# Altium schematic symbol library Microchip.SchLib: 39 symbols (part 2 of 2)
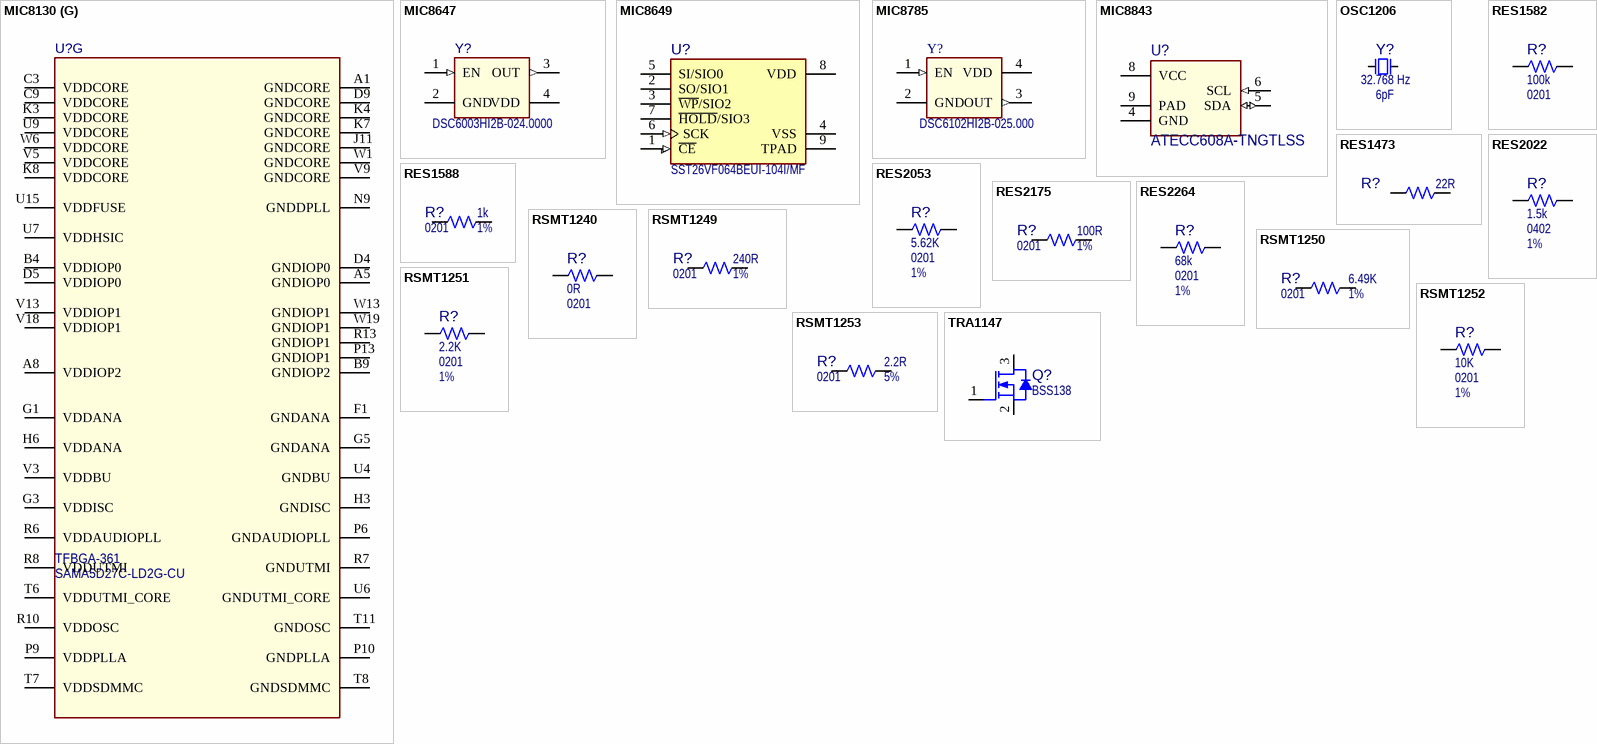
[diagram p2: symbols MIC8130 to TRA1147]

## RES2264
designator R?, comment value 68k  Package: 0201  Tolerance: 1%  (hidden comment: Resistor)
Manufacturer 1: Yageo; Manufacturer Part Number 1: RC0201FR-0768KL; MCHP-ID: RES2264; Description_: RES TKF 68K 1/20W SMD 0201; Dev Tools Status: Design; Voltage: 25V; Temperature Coeffcient: 200ppm/C; Power: 1/20W; Owner: Dragos Danaila; Populated: YES; Revision: A; Symbol: Resistor; Status: MCL Design; ComponentLink1URL: https://chn-vm-apps.microchip.com/mchprepo/parts/Datasheets/PYu-RC_Group_51_RoHS_L_10.pdf; ComponentLink1Description: SVN Datasheet; ComponentLink2URL: C:\ALTIUM_WORK\00001_MCHP-CDB\Datasheets\PYu-RC_Group_51_RoHS_L_10.pdf; ComponentLink2Description: Local Datasheet; ComponentLink3URL: C:\ALTIUM_WORK\00001_MCHP-CDB\Library\LibraryRefs\Resistor.SchLib; ComponentLink3Description: Open Symbol; ComponentLink4URL: C:\ALTIUM_WORK\00001_MCHP-CDB\Library\Footprints\RES_C_0201.PcbLib; ComponentLink4Description: Open Footprint; ComponentLink5Description: Open Footprint 2; ComponentLink6Description: Open Footprint 3; ComponentLink7Description: Open Footprint 4; Operating Temperature: -55C to +125C; Category: Resistor; Type: RES SMD; Composition: TKF; Supplier 1: Digi-Key; Supplier Part Number 1: YAG2772CT-ND; Quantity Override: 1
footprint RES_C_0201
pins: 1, 2

## RSMT1240
designator R?, comment value 0R  Package: 0201  (hidden comment: Resistor)
Manufacturer 1: Panasonic Electronic Components; Manufacturer Part Number 1: ERJ-1GN0R00C; MCHP-ID: RSMT1240; Description_: RES TKF 0R 1/20W SMD 0201; Dev Tools Status: Design; Voltage: 50V; Current: 0.5A; Power: 1/20W; Owner: Dragos Danaila; Populated: YES; Revision: A; Symbol: Resistor; Status: MCL Design; ComponentLink1URL: https://chn-vm-apps.microchip.com/mchprepo/parts/Datasheets/AOA0000C301.pdf; ComponentLink1Description: SVN Datasheet; ComponentLink2URL: C:\ALTIUM_WORK\00001_MCHP-CDB\Datasheets\AOA0000C301.pdf; ComponentLink2Description: Local Datasheet; ComponentLink3URL: C:\ALTIUM_WORK\00001_MCHP-CDB\Library\LibraryRefs\Resistor.SchLib; ComponentLink3Description: Open Symbol; ComponentLink4URL: C:\ALTIUM_WORK\00001_MCHP-CDB\Library\Footprints\RES_C_0201.PcbLib; ComponentLink4Description: Open Footprint; ComponentLink5Description: Open Footprint 2; ComponentLink6Description: Open Footprint 3; ComponentLink7Description: Open Footprint 4; Operating Temperature: -55C to +125C; Category: Resistor; Type: RES SMD; Composition: TKF; Supplier 1: Digi-Key; Supplier Part Number 1: P15979CT-ND; Quantity Override: 1
footprint RES_C_0201
pins: 1, 2

## RSMT1249
designator R?, comment value 240R  Package: 0201  Tolerance: 1%  (hidden comment: Resistor)
Manufacturer 1: Yageo; Manufacturer Part Number 1: RC0201FR-07240RL; MCHP-ID: RSMT1249; Description_: RES TKF 240R 1/20W SMD 0201; Dev Tools Status: Design; Voltage: 25V; Temperature Coeffcient: 200ppm; Current: 0.5A; Power: 1/20W; Owner: Dragos Danaila; Populated: YES; Revision: A; Symbol: Resistor; Status: MCL Design; ComponentLink1URL: https://chn-vm-apps.microchip.com/mchprepo/parts/Datasheets/PYu-RC_Group_51_RoHS_L_9.pdf; ComponentLink1Description: SVN Datasheet; ComponentLink2URL: C:\ALTIUM_WORK\00001_MCHP-CDB\Datasheets\PYu-RC_Group_51_RoHS_L_9.pdf; ComponentLink2Description: Local Datasheet; ComponentLink3URL: C:\ALTIUM_WORK\00001_MCHP-CDB\Library\LibraryRefs\Resistor.SchLib; ComponentLink3Description: Open Symbol; ComponentLink4URL: C:\ALTIUM_WORK\00001_MCHP-CDB\Library\Footprints\RES_C_0201.PcbLib; ComponentLink4Description: Open Footprint; ComponentLink5Description: Open Footprint 2; ComponentLink6Description: Open Footprint 3; ComponentLink7Description: Open Footprint 4; Operating Temperature: -55C to +125C; Category: Resistor; Type: RES SMD; Composition: TKF; Supplier 1: Digi-Key; Supplier Part Number 1: YAG2528CT-ND; Quantity Override: 1
footprint RES_C_0201
pins: 1, 2

## RSMT1250
designator R?, comment value 6.49K  Package: 0201  Tolerance: 1%  (hidden comment: Resistor)
Manufacturer 1: Yageo; Manufacturer Part Number 1: AC0201FR-076K49L; MCHP-ID: RSMT1250; Description_: RES TKF 6.49K 1% 1/20W SMD 0201; Dev Tools Status: Design; Voltage: 25V; Temperature Coeffcient: 200ppm; Current: 0.5A; Power: 1/20W; Owner: Dragos Danaila; Populated: YES; Revision: A; Symbol: Resistor; Status: MCL Design; ComponentLink1URL: https://chn-vm-apps.microchip.com/mchprepo/parts/Datasheets/yageodocoutput.pdf; ComponentLink1Description: SVN Datasheet; ComponentLink2URL: C:\ALTIUM_WORK\00001_MCHP-CDB\Datasheets\yageodocoutput.pdf; ComponentLink2Description: Local Datasheet; ComponentLink3URL: C:\ALTIUM_WORK\00001_MCHP-CDB\Library\LibraryRefs\Resistor.SchLib; ComponentLink3Description: Open Symbol; ComponentLink4URL: C:\ALTIUM_WORK\00001_MCHP-CDB\Library\Footprints\RES_C_0201.PcbLib; ComponentLink4Description: Open Footprint; ComponentLink5Description: Open Footprint 2; ComponentLink6Description: Open Footprint 3; ComponentLink7Description: Open Footprint 4; Operating Temperature: -55C to +155C; Category: Resistor; Type: RES SMD; Composition: TKF; Supplier 1: Digi-Key; Supplier Part Number 1: YAG5236CT-ND; Quantity Override: 1
footprint RES_C_0201
pins: 1, 2

## RSMT1251
designator R?, comment value 2.2K  Package: 0201  Tolerance: 1%  (hidden comment: Resistor)
Manufacturer 1: Vishay Dale; Manufacturer Part Number 1: CRCW02012K20FKED; MCHP-ID: RSMT1251; Description_: RES TKF 2.2K 1/20W SMD 0201; Dev Tools Status: Design; Voltage: 25V; Temperature Coeffcient: 100ppm/C; Current: 0.5A; Power: 1/20W; Owner: Dragos Danaila; Populated: YES; Revision: A; Symbol: Resistor; Status: MCL Design; ComponentLink1URL: https://chn-vm-apps.microchip.com/mchprepo/parts/Datasheets/crcw0201e3.pdf; ComponentLink1Description: SVN Datasheet; ComponentLink2URL: C:\ALTIUM_WORK\00001_MCHP-CDB\Datasheets\crcw0201e3.pdf; ComponentLink2Description: Local Datasheet; ComponentLink3URL: C:\ALTIUM_WORK\00001_MCHP-CDB\Library\LibraryRefs\Resistor.SchLib; ComponentLink3Description: Open Symbol; ComponentLink4URL: C:\ALTIUM_WORK\00001_MCHP-CDB\Library\Footprints\RES_C_0201.PcbLib; ComponentLink4Description: Open Footprint; ComponentLink5Description: Open Footprint 2; ComponentLink6Description: Open Footprint 3; ComponentLink7Description: Open Footprint 4; Operating Temperature: -55C to +155C; Category: Resistor; Type: RES SMD; Composition: TKF; Supplier 1: Digi-Key; Supplier Part Number 1: 541-2.20KAABCT-ND; Quantity Override: 1
footprint RES_C_0201
pins: 1, 2

## RSMT1252
designator R?, comment value 10K  Package: 0201  Tolerance: 1%  (hidden comment: Resistor)
Manufacturer 1: Yageo; Manufacturer Part Number 1: RC0201FR-0710KL; MCHP-ID: RSMT1252; Description_: RES TKF 10K 1% 1/20W SMD 0201; Dev Tools Status: Design; Voltage: 25V; Temperature Coeffcient: 200pm/C; Power: 1/20W; Owner: Dragos Danaila; Populated: YES; Revision: A; Symbol: Resistor; Status: MCL Design; ComponentLink1URL: https://chn-vm-apps.microchip.com/mchprepo/parts/Datasheets/PYu-RC_Group_51_RoHS_L_9.pdf; ComponentLink1Description: SVN Datasheet; ComponentLink2URL: C:\ALTIUM_WORK\00001_MCHP-CDB\Datasheets\PYu-RC_Group_51_RoHS_L_9.pdf; ComponentLink2Description: Local Datasheet; ComponentLink3URL: C:\ALTIUM_WORK\00001_MCHP-CDB\Library\LibraryRefs\Resistor.SchLib; ComponentLink3Description: Open Symbol; ComponentLink4URL: C:\ALTIUM_WORK\00001_MCHP-CDB\Library\Footprints\RES_C_0201.PcbLib; ComponentLink4Description: Open Footprint; ComponentLink5Description: Open Footprint 2; ComponentLink6Description: Open Footprint 3; ComponentLink7Description: Open Footprint 4; Operating Temperature: -55 to +125C; Category: Resistor; Type: RES SMD; Composition: TKF; Supplier 1: Digi-Key; Supplier Part Number 1: 311-10.0KMCT-ND; Quantity Override: 1
footprint RES_C_0201
pins: 1, 2

## RSMT1253
designator R?, comment value 2.2R  Package: 0201  Tolerance: 5%  (hidden comment: Resistor)
Manufacturer 1: Yageo; Manufacturer Part Number 1: RC0201JR-072R2L; MCHP-ID: RSMT1253; Description_: RES TKF 2.2R 5% 1/20W SMD 0201; Dev Tools Status: Design; Voltage: 25V; Temperature Coeffcient: -100/+350 ppm/C; Power: 1/20W; Owner: Dragos Danaila; Populated: YES; Revision: B; Symbol: Resistor; Status: MCL Design; ComponentLink1URL: https://chn-vm-apps.microchip.com/mchprepo/parts/Datasheets/PYu-RC_Group_51_RoHS_L_9.pdf; ComponentLink1Description: SVN Datasheet; ComponentLink2URL: C:\ALTIUM_WORK\00001_MCHP-CDB\Datasheets\PYu-RC_Group_51_RoHS_L_9.pdf; ComponentLink2Description: Local Datasheet; ComponentLink3URL: C:\ALTIUM_WORK\00001_MCHP-CDB\Library\LibraryRefs\Resistor.SchLib; ComponentLink3Description: Open Symbol; ComponentLink4URL: C:\ALTIUM_WORK\00001_MCHP-CDB\Library\Footprints\RES_C_0201.PcbLib; ComponentLink4Description: Open Footprint; ComponentLink5Description: Open Footprint 2; ComponentLink6Description: Open Footprint 3; ComponentLink7Description: Open Footprint 4; Operating Temperature: -55C to +125C; Category: Resistor; Type: RES SMD; Composition: TKF; Supplier 1: Digi-Key; Supplier Part Number 1: YAG2886CT-ND; Quantity Override: 1
footprint RES_C_0201
pins: 1, 2

## TRA1147
designator Q?, comment value BSS138  (hidden comment: Transistor MOS-N GSD)
Transistor MOS; Manufacturer 1: Fairchild; MCHP-ID: TRA1147; Description_: TRANS FET N-CH BSS138 50V 220mA 360mW SOT-23; Dev Tools Status: Production; Type: FET; Current: 220mA; Drain to Source Voltage: 50V; Gate to Source Voltage: 1.3V; Power: 360mW; Owner: Razvan Cristescu; Populated: YES; Revision: 1; Symbol: Transistor MOS-N GSD; Status: MCL Design; Package: SOT-23-3; ComponentLink1URL: https://chn-vm-apps.microchip.com/mchprepo/parts/Datasheets/2163920.pdf; ComponentLink1Description: SVN Datasheet; ComponentLink2URL: C:\ALTIUM_WORK\00001_MCHP-CDB\Datasheets\2163920.pdf; ComponentLink2Description: Local Datasheet; ComponentLink3URL: C:\ALTIUM_WORK\00001_MCHP-CDB\Library\LibraryRefs\Transistor MOS-N GSD.SchLib; ComponentLink3Description: Open Symbol; ComponentLink4URL: C:\ALTIUM_WORK\00001_MCHP-CDB\Library\Footprints\SOT-23-3.PcbLib; ComponentLink4Description: Open Footprint; ComponentLink5Description: Open Footprint 2; ComponentLink6Description: Open Footprint 3; ComponentLink7Description: Open Footprint 4; Operating Temperature: -55C to +150C; Category: Transistor; Voltage: 50V; Manufacturer Part Number 1: BSS138; Supplier 1: Farnell; Supplier Part Number 1: 9845330; Quantity Override: 1
footprint SOT-23-3
pins: 1 G, 2 S, 3 D